# Altium footprint library C0402 (2)1.PcbLib: 1 footprints
Each footprint in its own frame and in the unit in brackets; x right, y up, seen from the top. Pads: shape width x height; smd on the part's side, far side on the other; paste and mask are expansions set on the pad; w line width, h text height; cw(c..) or ccw(c..) is an arc to the next point about the centre after c.
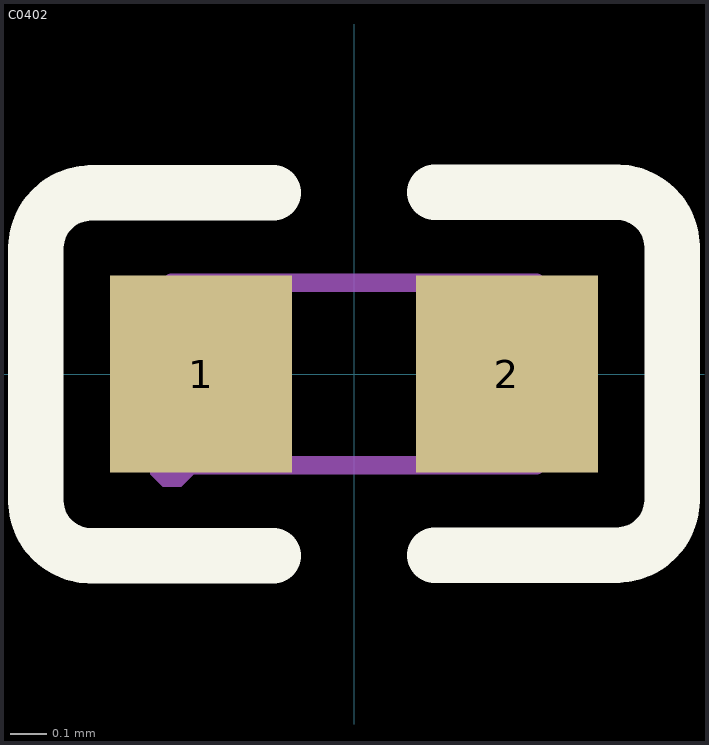
[diagram p0: the footprint, top view; thin cyan lines are the x and y axes]

## C0402 [mm]
pads (2):
  rect 0.5x0.54 smd: 1(-0.42,0) 2(0.42,0)
Top Overlay:
  lines w0.152: -0.221,-0.5 -0.721,-0.5 cw(c-0.721,-0.347) -0.874,-0.347 -0.874,0.345 cw(c-0.721,0.345) -0.721,0.498 -0.221,0.498 ; 0.221,-0.498 0.721,-0.498 ccw(c0.721,-0.345) 0.874,-0.345 0.874,0.347 ccw(c0.721,0.347) 0.721,0.5 0.221,0.5
Mechanical 6:
  lines w0.051: -0.5,-0.25 0.5,-0.25 0.5,0.25 -0.5,0.25 -0.5,-0.25
Mechanical 8:
  region: -0.44,-0.25 -0.44,-0.275 -0.475,-0.31 -0.525,-0.31 -0.56,-0.275 -0.56,-0.25 -0.56,-0.225 -0.525,-0.19 -0.475,-0.19 -0.44,-0.225 -0.44,-0.25
Mechanical 9:
  region: 0.5,-0.25 0.5,0.25 0.25,0.25 0.25,-0.25
  region: -0.5,-0.25 -0.5,0.25 -0.25,0.25 -0.25,-0.25